# Altium schematic symbol library R5F107DE-old.SchLib: 1 symbol
Pins are listed as number, name and electrical type; pins without a type are passive.

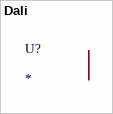
[diagram p0: symbol Dali]

## Dali
designator U?